# Altium footprint library SMF05C.PcbLib: 1 footprints
Each footprint in its own frame and in the unit in brackets; x right, y up, seen from the top. Pads: shape width x height; smd on the part's side, far side on the other; paste and mask are expansions set on the pad; w line width, h text height; cw(c..) or ccw(c..) is an arc to the next point about the centre after c.
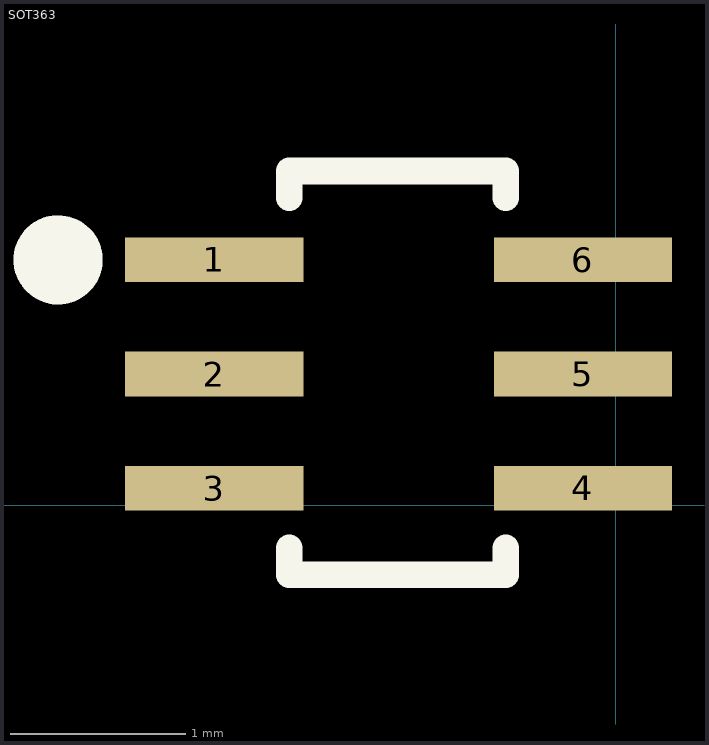
[diagram p0: the footprint, top view; thin cyan lines are the x and y axes]

## SOT363 [mil]
pads (6):
  rect 40x10 smd: 1(-90,55) 2(-90,29.41) 3(-90,3.82) 4(-7.32,3.82) 5(-7.32,29.41) 6(-7.32,55)
Top Overlay:
  circle w10: c-125,55 r5
  lines w6: -73.16,-9.59 -73.16,-15.59 -24.66,-15.59 -24.66,-9.59 ; -73.16,68.91 -73.16,74.91 -24.66,74.91 -24.66,68.91
3D body "SC70-6L_SEM.step": height 43.11, standoff 0, extent -91.5,-11.5 -8.5,71.5